# Altium footprint library GCT USB1061-GF-L-A.PcbLib: 1 footprints
Each footprint in its own frame and in the unit in brackets; x right, y up, seen from the top. Pads: shape width x height; smd on the part's side, far side on the other; paste and mask are expansions set on the pad; w line width, h text height; cw(c..) or ccw(c..) is an arc to the next point about the centre after c.
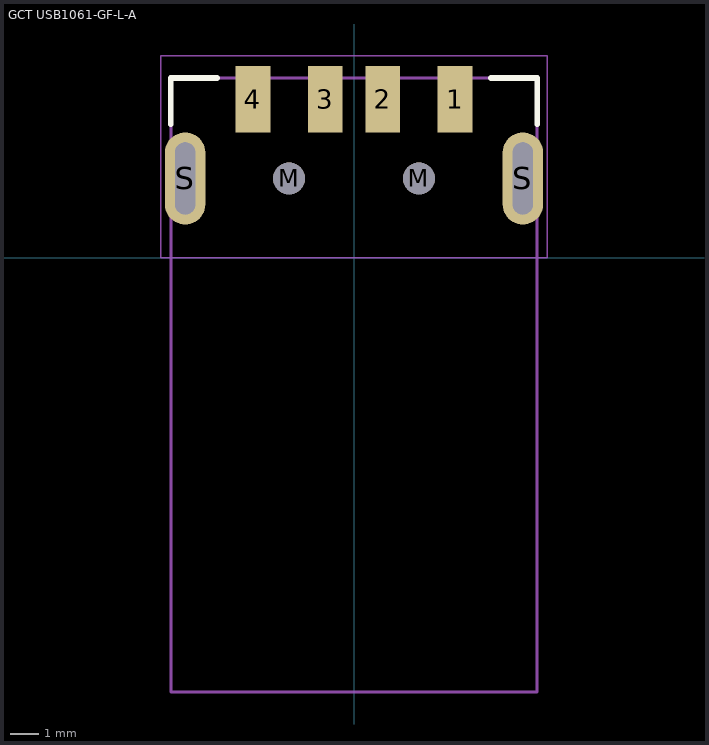
[diagram p0: the footprint, top view; thin cyan lines are the x and y axes]

## GCT USB1061-GF-L-A [mm] "USB 2.0 A Plug"
height 4.5
pads (8):
  rect 1.2x2.3 smd: 1(3.5,5.5) 2(1,5.5) 3(-1,5.5) 4(-3.5,5.5)
  round 1.1 hole 1.1 unplated mask+0: M(-2.25,2.75) M(2.25,2.75)
  oval 1.4x3.2 hole 0.7 slot 2.5 at 90 deg: S(-5.85,2.75) S(5.85,2.75)
Top Overlay:
  lines w0.2: -6.346,4.63 -6.346,6.23 -4.746,6.23 ; 4.746,6.23 6.346,6.23 6.346,4.63
Top Assembly:
  lines w0.1: -6.346,-15.05 -6.346,6.23 6.346,6.23 6.346,-15.05 -6.346,-15.05
Top Courtyard:
  lines w0.05: -6.7,0 -6.7,7 6.7,7 6.7,0 -6.7,0
  text "PCB EDGE" at -2.251,-0.82 h1
Top Designator:
  text ".Designator" at -4.473,-4.493 h2
3D body "USB1061-GF-L-A--3DModel-STEP-269445.STEP": height 3.07, standoff -2.87, extent -6.346,-15.05 6.346,6.23